# Altium footprint library ATM90E26_YU_B.PcbLib: 1 footprints
Each footprint in its own frame and in the unit in brackets; x right, y up, seen from the top. Pads: shape width x height; smd on the part's side, far side on the other; paste and mask are expansions set on the pad; w line width, h text height; cw(c..) or ccw(c..) is an arc to the next point about the centre after c.
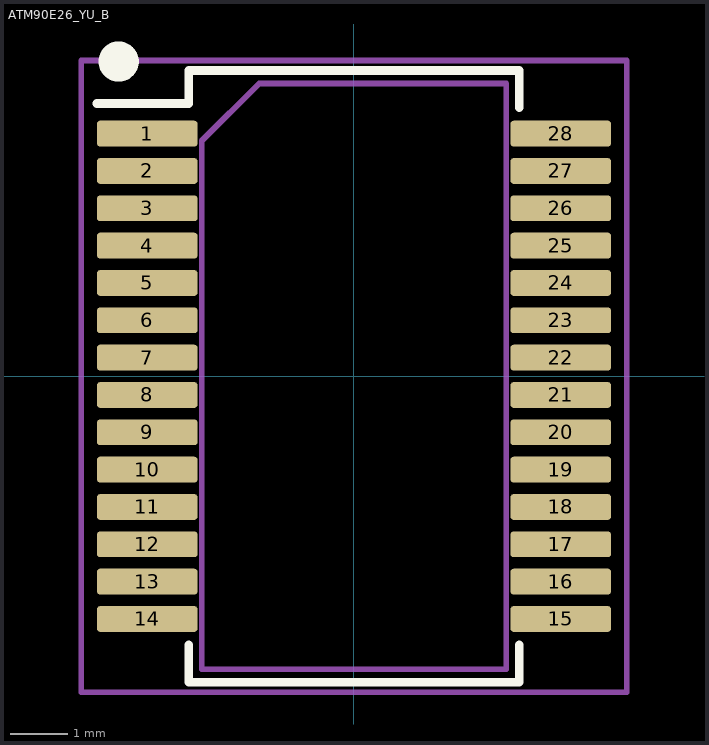
[diagram p0: the footprint, top view; thin cyan lines are the x and y axes]

## ATM90E26_YU_B [mm] "ATM90E26_YU_B"
pads (28):
  rrect25% 1.75x0.45 smd mask+0.102: 1(-3.6,4.225) 2(-3.6,3.575) 3(-3.6,2.925) 4(-3.6,2.275) 5(-3.6,1.625) 6(-3.6,0.975) 7(-3.6,0.325) 8(-3.6,-0.325) 9(-3.6,-0.975) 10(-3.6,-1.625) 11(-3.6,-2.275) 12(-3.6,-2.925) 13(-3.6,-3.575) 14(-3.6,-4.225) 15(3.6,-4.225) 16(3.6,-3.575) 17(3.6,-2.925) 18(3.6,-2.275) 19(3.6,-1.625) 20(3.6,-0.975) 21(3.6,-0.325) 22(3.6,0.325) 23(3.6,0.975) 24(3.6,1.625) 25(3.6,2.275) 26(3.6,2.925) 27(3.6,3.575) 28(3.6,4.225)
Top Overlay:
  circle w0.5: c-4.097,5.48 r0.1
  lines w0.15: -4.475,4.75 -2.875,4.75 -2.875,5.325 2.875,5.325 2.875,4.675 ; -2.875,-4.675 -2.875,-5.325 2.875,-5.325 2.875,-4.675
Mechanical 1:
  lines w0.1: -4.75,-5.5 -4.75,5.5 4.75,5.5 4.75,-5.5 -4.75,-5.5 ; -2.65,-5.1 -2.65,4.1 -1.65,5.1 2.65,5.1 2.65,-5.1 -2.65,-5.1
  text ".Designator" at 0,-0.453 h2
Top Courtyard:
  text "+" at -1,-1.5 h3
3D body "IC_Microchip_ATM90E26-YU-B_eec.STEP": height 1.99, standoff 0, extent -3.9,-5.1 3.9,5.1